# Altium footprint library IC.PcbLib: 83 footprints (part 4 of 6)
Each footprint in its own frame and in the unit in brackets; x right, y up, seen from the top. Pads: shape width x height; smd on the part's side, far side on the other; paste and mask are expansions set on the pad; w line width, h text height; cw(c..) or ccw(c..) is an arc to the next point about the centre after c.
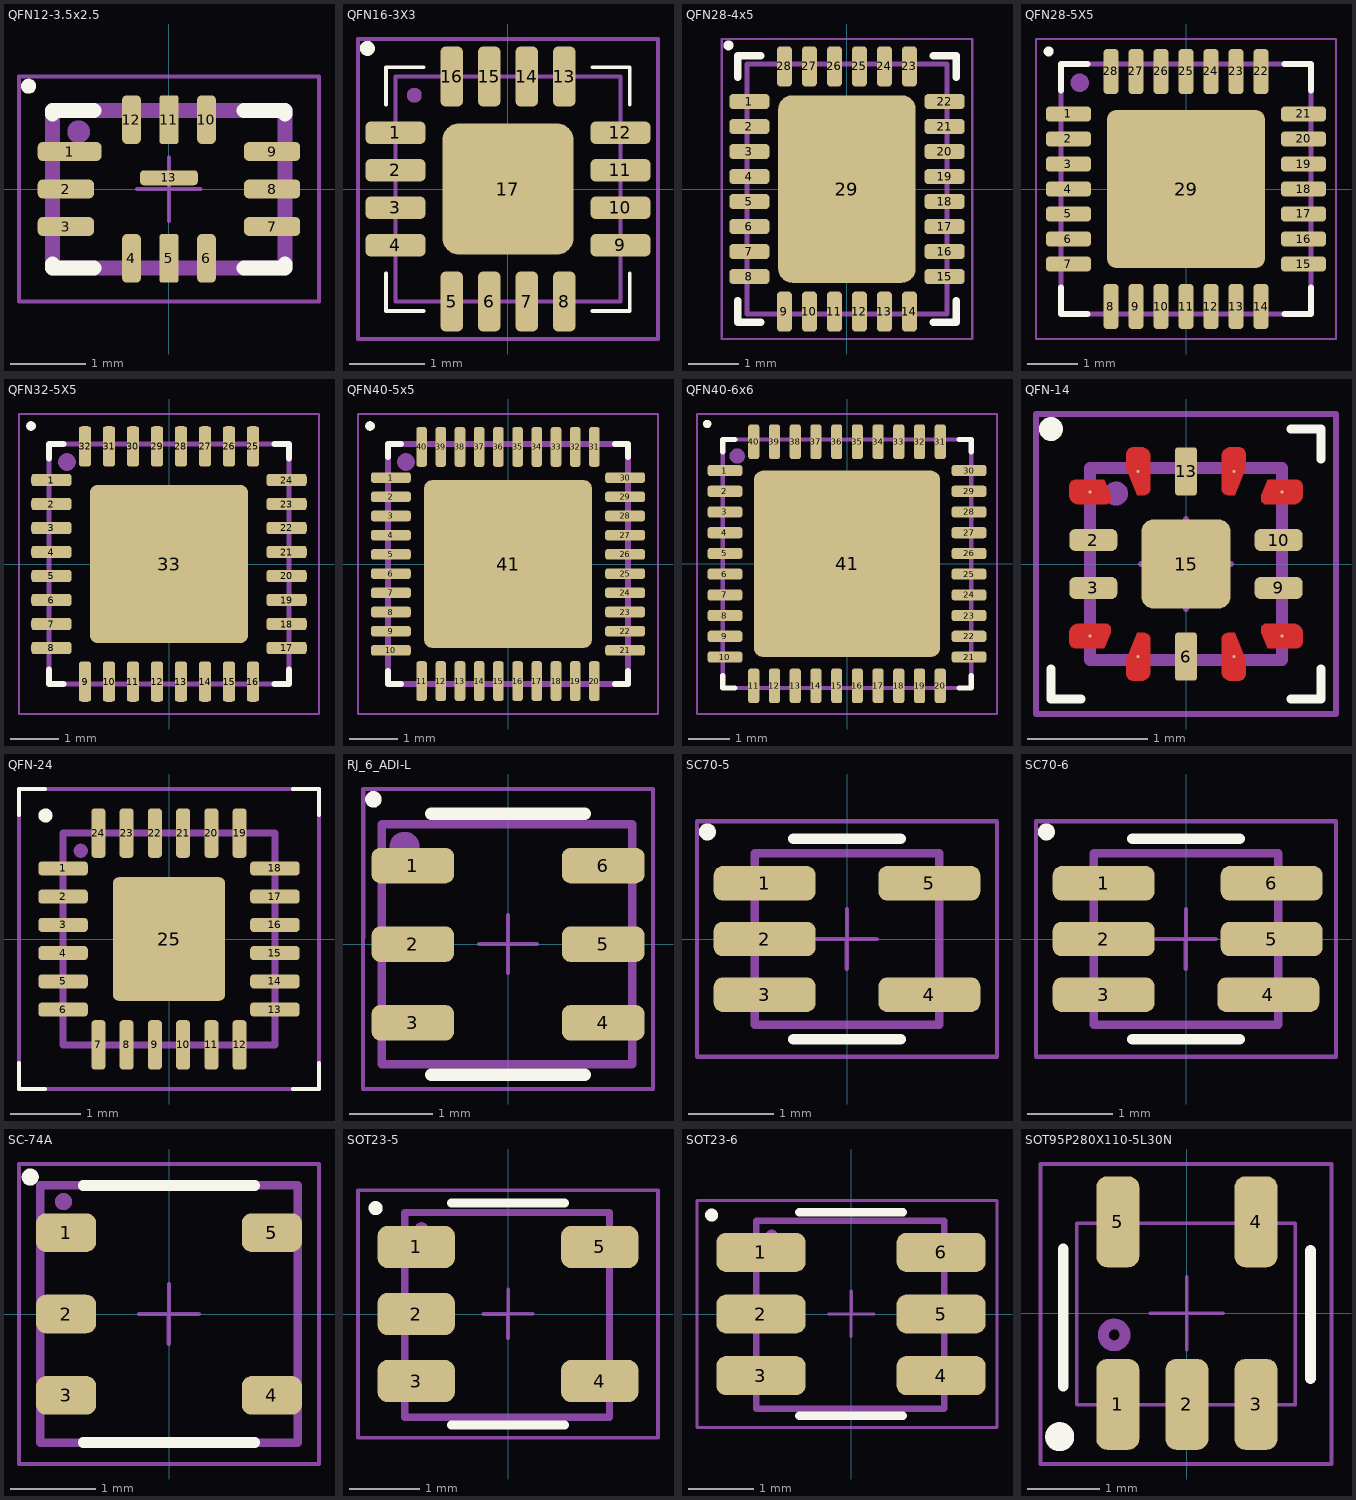
[diagram p3: the footprints below, top view; thin cyan lines are the x and y axes]

## QFN12-3.5x2.5 [mm]
pads (13):
  rrect50% 0.85x0.25 smd: 1(-1.325,0.5)
  rrect50% 0.75x0.25 smd: 2(-1.375,0) 3(-1.375,-0.5) 7(1.375,-0.5) 8(1.375,0) 9(1.375,0.5)
  rrect50% 0.25x0.65 smd: 4(-0.5,-0.925) 6(0.5,-0.925) 10(0.5,0.925) 12(-0.5,0.925)
  rrect25% 0.25x0.65 smd: 5(0,-0.925) 11(0,0.925)
  rrect50% 0.77x0.2 smd: 13(0,0.15)
Top Overlay:
  circle w0.1: c-1.872,1.37 r0.05
  lines w0.2: -1.55,-1 -1.55,-1.05 -1,-1.05 ; -1.55,1 -1.55,1.05 -1,1.05 ; 1,-1.05 1.55,-1.05 1.55,-1 ; 1,1.05 1.55,1.05 1.55,1
Top Assembly:
  circle w0.254: c-1.204,0.763 r0.025
  lines w0.1: -1.55,-1.05 1.575,-1.05 1.575,1.075 -1.55,1.075 -1.55,-1.05
  text ".Designator" at -1.126,-0.113 h0.5
Bottom Assembly:
  lines w0.2: -1.55,-1.05 1.55,-1.05 1.55,1.05 -1.55,1.05 -1.55,-1.05
Top Courtyard:
  lines w0.05: -0.425,0 0,0 ; 0,-0.425 0,0 ; 0,0.425 0,0 ; 0.425,0 0,0 ; -2,-1.5 2,-1.5 2,1.5 -2,1.5 -2,-1.5
3D body "IC_Analog_Devices_LTC5553IUDB#TRMPBF_eec.STEP": height 0.85, standoff 0, extent -1.5,-1 1.5,1

## QFN16-3X3 [mm]
pads (17):
  rrect50% 0.8x0.3 smd: 1(-1.5,0.75) 2(-1.5,0.25) 3(-1.5,-0.25) 4(-1.5,-0.75) 9(1.5,-0.75) 10(1.5,-0.25) 11(1.5,0.25) 12(1.5,0.75)
  rrect50% 0.3x0.8 smd: 5(-0.75,-1.5) 6(-0.25,-1.5) 7(0.25,-1.5) 8(0.75,-1.5) 13(0.75,1.5) 14(0.25,1.5) 15(-0.25,1.5) 16(-0.75,1.5)
  rrect25% 1.75x1.75 smd: 17(0,0)
Top Overlay:
  circle w0.1: c-1.875,1.875 r0.05
  lines w0.05: -1.625,-1.125 -1.625,-1.625 -1.125,-1.625 ; -1.625,1.125 -1.625,1.625 -1.125,1.625 ; 1.125,-1.625 1.625,-1.625 1.625,-1.125 ; 1.125,1.625 1.625,1.625 1.625,1.125
Top Assembly:
  circle w0.1: c-1.25,1.25 r0.05
  lines w0.05: -1.5,-1.5 1.5,-1.5 1.5,1.5 -1.5,1.5 -1.5,-1.5
  text ".Designator" at -2.252,-0.226 h1
Top Courtyard:
  lines w0.05: -0.5,0 0,0 ; 0,-0.5 0,0 ; 0,0.5 0,0 ; 0.5,0 0,0 ; -2,-2 2,-2 2,2 -2,2 -2,-2
3D body "SI53306-B-GM.stp": height 0.83, standoff -0.02, extent -1.5,-1.5 1.5,1.5

## QFN28-4x5 [mm]
pads (29):
  rrect50% 0.805x0.3 smd: 1(-1.952,1.75) 2(-1.952,1.25) 3(-1.952,0.75) 4(-1.952,0.25) 5(-1.952,-0.25) 6(-1.952,-0.75) 7(-1.952,-1.25) 8(-1.952,-1.75) 15(1.952,-1.75) 16(1.952,-1.25) 17(1.952,-0.75) 18(1.952,-0.25) 19(1.952,0.25) 20(1.952,0.75) 21(1.952,1.25) 22(1.952,1.75)
  rrect50% 0.3x0.805 smd: 9(-1.25,-2.452) 10(-0.75,-2.452) 11(-0.25,-2.452) 12(0.25,-2.452) 13(0.75,-2.452) 14(1.25,-2.452) 23(1.25,2.452) 24(0.75,2.452) 25(0.25,2.452) 26(-0.25,2.452) 27(-0.75,2.452) 28(-1.25,2.452)
  rrect20% 2.75x3.75 smd: 29(0,0)
Top Overlay:
  circle w0.1: c-2.37,2.872 r0.05
  lines w0.152: -2.184,-2.235 -2.184,-2.667 -1.727,-2.667 ; -2.184,2.235 -2.184,2.667 -1.727,2.667 ; 1.727,-2.667 2.184,-2.667 2.184,-2.235 ; 1.727,2.667 2.184,2.667 2.184,2.235
Top Assembly:
  circle w0.254: c-1.204,0.763 r0.025
  lines w0.1: -2,-2.5 2,-2.5 2,2.5 -2,2.5 -2,-2.5
  text ".Designator" at -1.126,-0.113 h0.5
Top Courtyard:
  lines w0.05: -0.4,0 0,0 ; 0,-0.4 0,0 ; 0,0.4 0,0 ; 0.4,0 0,0 ; -2.5,-3 2.5,-3 2.5,3 -2.5,3 -2.5,-3
3D body "LTC3789EUFD#PBF.STEP": height 0.8, standoff 0, extent -2,-2.5 2,2.5

## QFN28-5X5 [mm]
height 0.9
pads (29):
  rrect50% 0.9x0.3 smd: 1(-2.35,1.5) 2(-2.35,1) 3(-2.35,0.5) 4(-2.35,0) 5(-2.35,-0.5) 6(-2.35,-1) 7(-2.35,-1.5) 15(2.35,-1.5) 16(2.35,-1) 17(2.35,-0.5) 18(2.35,0) 19(2.35,0.5) 20(2.35,1) 21(2.35,1.5)
  rrect50% 0.3x0.9 smd: 8(-1.5,-2.35) 9(-1,-2.35) 10(-0.5,-2.35) 11(0,-2.35) 12(0.5,-2.35) 13(1,-2.35) 14(1.5,-2.35) 22(1.5,2.35) 23(1,2.35) 24(0.5,2.35) 25(0,2.35) 26(-0.5,2.35) 27(-1,2.35) 28(-1.5,2.35)
  rrect10% 3.15x3.15 smd: 29(0,0)
Top Overlay:
  circle w0.1: c-2.749,2.751 r0.05
  lines w0.127: -2.5,-1.97 -2.5,-2.5 -1.97,-2.5 ; -2.5,1.97 -2.5,2.5 -1.97,2.5 ; 1.97,-2.5 2.5,-2.5 2.5,-1.97 ; 1.97,2.5 2.5,2.5 2.5,1.97
Top Assembly:
  circle w0.254: c-2.125,2.125 r0.056
  lines w0.1: -2.5,-2.5 2.5,-2.5 2.5,2.5 -2.5,2.5 -2.5,-2.5
  text ".Designator" at -1.126,-0.113 h0.5
Top Courtyard:
  lines w0.05: -0.65,0 0,0 0,0.65 ; -0.005,-0.639 -0.005,0.011 ; -0.005,0.016 0.645,0.016 ; -3,-3 -3,3 3,3 3,-3 -3,-3
3D body: height 0.25, standoff 0, extent -2.54,-2.54 2.54,2.54

## QFN32-5X5 [mm]
pads (33):
  rrect50% 0.84x0.26 smd: 1(-2.45,1.75) 2(-2.45,1.25) 3(-2.45,0.75) 4(-2.45,0.25) 5(-2.45,-0.25) 6(-2.45,-0.75) 7(-2.45,-1.25) 8(-2.45,-1.75) 17(2.45,-1.75) 18(2.45,-1.25) 19(2.45,-0.75) 20(2.45,-0.25) 21(2.45,0.25) 22(2.45,0.75) 23(2.45,1.25) 24(2.45,1.75)
  rrect50% 0.26x0.84 smd: 9(-1.75,-2.45) 10(-1.25,-2.45) 11(-0.75,-2.45) 12(-0.25,-2.45) 13(0.25,-2.45) 14(0.75,-2.45) 15(1.25,-2.45) 16(1.75,-2.45) 25(1.75,2.45) 26(1.25,2.45) 27(0.75,2.45) 28(0.25,2.45) 29(-0.25,2.45) 30(-0.75,2.45) 31(-1.25,2.45) 32(-1.75,2.45)
  rrect10% 3.3x3.3 smd: 33(0,0)
Top Overlay:
  circle w0.1: c-2.875,2.875 r0.05
  lines w0.127: -2.5,-2.2 -2.5,-2.5 -2.2,-2.5 ; -2.5,2.2 -2.5,2.5 -2.2,2.5 ; 2.2,-2.5 2.5,-2.5 2.5,-2.2 ; 2.2,2.5 2.5,2.5 2.5,2.2
Top Assembly:
  circle w0.254: c-2.125,2.125 r0.056
  lines w0.1: -2.5,-2.5 2.5,-2.5 2.5,2.5 -2.5,2.5 -2.5,-2.5
  text ".Designator" at -1.126,-0.113 h0.5
Top Courtyard:
  lines w0.05: -0.55,0 0,0 ; 0,-0.55 0,0 ; 0,0.55 0,0 ; 0.55,0 0,0 ; -3.125,-3.125 -3.125,3.125 3.125,3.125 3.125,-3.125 -3.125,-3.125
3D body "FT232RQ--3DModel-STEP-56544.STEP": height 0.9, standoff 0, extent -2.5,-2.5 2.5,2.5

## QFN40-5x5 [mm]
pads (41):
  rrect50% 0.83x0.22 smd: 1(-2.44,1.8) 2(-2.44,1.4) 3(-2.44,1) 4(-2.44,0.6) 5(-2.44,0.2) 6(-2.44,-0.2) 7(-2.44,-0.6) 8(-2.44,-1) 9(-2.44,-1.4) 10(-2.44,-1.8) 21(2.44,-1.8) 22(2.44,-1.4) 23(2.44,-1) 24(2.44,-0.6) 25(2.44,-0.2) 26(2.44,0.2) 27(2.44,0.6) 28(2.44,1) 29(2.44,1.4) 30(2.44,1.8)
  rrect50% 0.22x0.83 smd: 11(-1.8,-2.44) 12(-1.4,-2.44) 13(-1,-2.44) 14(-0.6,-2.44) 15(-0.2,-2.44) 16(0.2,-2.44) 17(0.6,-2.44) 18(1,-2.44) 19(1.4,-2.44) 20(1.8,-2.44) 31(1.8,2.44) 32(1.4,2.44) 33(1,2.44) 34(0.6,2.44) 35(0.2,2.44) 36(-0.2,2.44) 37(-0.6,2.44) 38(-1,2.44) 39(-1.4,2.44) 40(-1.8,2.44)
  rrect10% 3.5x3.5 smd: 41(0,0)
Top Overlay:
  circle w0.1: c-2.875,2.875 r0.05
  lines w0.127: -2.5,-2.23 -2.5,-2.5 -2.23,-2.5 ; -2.5,2.23 -2.5,2.5 -2.23,2.5 ; 2.23,-2.5 2.5,-2.5 2.5,-2.23 ; 2.23,2.5 2.5,2.5 2.5,2.23
Top Assembly:
  circle w0.254: c-2.125,2.125 r0.056
  lines w0.1: -2.5,-2.5 2.5,-2.5 2.5,2.5 -2.5,2.5 -2.5,-2.5
  text ".Designator" at -1.126,-0.113 h0.5
Top 3D Body:
  lines w0.127: -2.5,-2.5 2.5,-2.5 2.5,2.5 -2.5,2.5 -2.5,-2.5
Top Courtyard:
  lines w0.05: -0.3,0 0,0 ; 0,-0.3 0,0 ; 0,0.3 0,0 ; 0.3,0 0,0 ; -3.125,-3.125 3.125,-3.125 3.125,3.125 -3.125,3.125 -3.125,-3.125
3D body "step_temp.STEP": height 0.8, standoff 0, extent -2.5,-2.5 2.5,2.5

## QFN40-6x6 [mm]
pads (41):
  rrect50% 0.84x0.27 smd: 1(-2.945,2.25) 2(-2.945,1.75) 3(-2.945,1.25) 4(-2.945,0.75) 5(-2.945,0.25) 6(-2.945,-0.25) 7(-2.945,-0.75) 8(-2.945,-1.25) 9(-2.945,-1.75) 10(-2.945,-2.25) 21(2.945,-2.25) 22(2.945,-1.75) 23(2.945,-1.25) 24(2.945,-0.75) 25(2.945,-0.25) 26(2.945,0.25) 27(2.945,0.75) 28(2.945,1.25) 29(2.945,1.75) 30(2.945,2.25)
  rrect50% 0.27x0.84 smd: 11(-2.25,-2.945) 12(-1.75,-2.945) 13(-1.25,-2.945) 14(-0.75,-2.945) 15(-0.25,-2.945) 16(0.25,-2.945) 17(0.75,-2.945) 18(1.25,-2.945) 19(1.75,-2.945) 20(2.25,-2.945) 31(2.25,2.945) 32(1.75,2.945) 33(1.25,2.945) 34(0.75,2.945) 35(0.25,2.945) 36(-0.25,2.945) 37(-0.75,2.945) 38(-1.25,2.945) 39(-1.75,2.945) 40(-2.25,2.945)
  rrect10% 4.5x4.5 smd: 41(0,0)
Top Overlay:
  circle w0.1: c-3.375,3.375 r0.05
  lines w0.127: -3,-2.705 -3,-3 -2.705,-3 ; -3,2.705 -3,3 -2.705,3 ; 2.705,-3 3,-3 3,-2.705 ; 2.705,3 3,3 3,2.705
Top Assembly:
  circle w0.254: c-2.65,2.6 r0.056
  lines w0.1: -3,-3 3,-3 3,3 -3,3 -3,-3
  text ".Designator" at -1.126,-0.113 h0.5
Top Courtyard:
  lines w0.05: -0.427,0.003 0,0 ; -0.003,-0.427 0,0 ; -0.001,-0.001 0.426,-0.004 ; 0,0 0.003,0.427 0,0 ; -3.615,-3.625 -3.615,3.615 3.615,3.615 3.615,-3.625 -3.615,-3.625
3D body "NCN5120MNTWG--3DModel-STEP-269445.STEP": height 1, standoff 0, extent -3,-3 3,3

## QFN-14 [mm]
height 0.55
pads (15):
  round 0.025 smd: 1(-0.8,0.6) 4(-0.8,-0.6) 5(-0.4,-0.772) 7(0.4,-0.772) 8(0.8,-0.6) 11(0.8,0.6) 12(0.4,0.772) 14(-0.4,0.772)
  rrect50% 0.4x0.18 smd: 2(-0.772,0.2) 3(-0.772,-0.2) 9(0.772,-0.2) 10(0.772,0.2)
  rrect25% 0.18x0.4 smd: 6(0,-0.772) 13(0,0.772)
  rrect25% 0.74x0.74 smd: 15(0,0)
Top Layer:
  region: -0.663,-0.5 -0.656,-0.5 -0.643,-0.506 -0.633,-0.516 -0.627,-0.529 -0.627,-0.536 -0.627,-0.573 -0.681,-0.7 -0.922,-0.7 -0.932,-0.7 -0.95,-0.692 -0.964,-0.678 -0.972,-0.66 -0.972,-0.65 -0.972,-0.575 -0.972,-0.56 -0.961,-0.533 -0.939,-0.511 -0.912,-0.5 -0.897,-0.5
  region: -0.3,-0.903 -0.3,-0.917 -0.311,-0.942 -0.33,-0.961 -0.355,-0.972 -0.369,-0.972 -0.438,-0.972 -0.451,-0.972 -0.473,-0.963 -0.491,-0.945 -0.5,-0.923 -0.5,-0.91 -0.5,-0.797 -0.406,-0.572 -0.353,-0.572 -0.343,-0.572 -0.323,-0.58 -0.308,-0.595 -0.3,-0.615 -0.3,-0.625
  region: 0.3,0.903 0.3,0.917 0.311,0.942 0.33,0.961 0.355,0.972 0.369,0.972 0.438,0.972 0.451,0.972 0.473,0.963 0.491,0.945 0.5,0.923 0.5,0.91 0.5,0.797 0.406,0.572 0.353,0.572 0.343,0.572 0.323,0.58 0.308,0.595 0.3,0.615 0.3,0.625
  region: -0.3,0.903 -0.3,0.917 -0.311,0.942 -0.33,0.961 -0.355,0.972 -0.369,0.972 -0.438,0.972 -0.451,0.972 -0.473,0.963 -0.491,0.945 -0.5,0.923 -0.5,0.91 -0.5,0.797 -0.406,0.572 -0.353,0.572 -0.343,0.572 -0.323,0.58 -0.308,0.595 -0.3,0.615 -0.3,0.625
  region: 0.3,-0.903 0.3,-0.917 0.311,-0.942 0.33,-0.961 0.355,-0.972 0.369,-0.972 0.438,-0.972 0.451,-0.972 0.473,-0.963 0.491,-0.945 0.5,-0.923 0.5,-0.91 0.5,-0.797 0.406,-0.572 0.353,-0.572 0.343,-0.572 0.323,-0.58 0.308,-0.595 0.3,-0.615 0.3,-0.625
  region: 0.663,-0.5 0.656,-0.5 0.643,-0.506 0.633,-0.516 0.627,-0.529 0.627,-0.536 0.627,-0.573 0.681,-0.7 0.922,-0.7 0.932,-0.7 0.95,-0.692 0.964,-0.678 0.972,-0.66 0.972,-0.65 0.972,-0.575 0.972,-0.56 0.961,-0.533 0.939,-0.511 0.912,-0.5 0.897,-0.5
  region: 0.663,0.5 0.656,0.5 0.643,0.506 0.633,0.516 0.627,0.529 0.627,0.536 0.627,0.573 0.681,0.7 0.922,0.7 0.932,0.7 0.95,0.692 0.964,0.678 0.972,0.66 0.972,0.65 0.972,0.575 0.972,0.56 0.961,0.533 0.939,0.511 0.912,0.5 0.897,0.5
  region: -0.663,0.5 -0.656,0.5 -0.643,0.506 -0.633,0.516 -0.627,0.529 -0.627,0.536 -0.627,0.573 -0.681,0.7 -0.922,0.7 -0.932,0.7 -0.95,0.692 -0.964,0.678 -0.972,0.66 -0.972,0.65 -0.972,0.575 -0.972,0.56 -0.961,0.533 -0.939,0.511 -0.912,0.5 -0.897,0.5
Top Overlay:
  circle w0.1: c-1.125,1.125 r0.05
  lines w0.075: -1.125,-0.875 -1.125,-1.125 -0.875,-1.125 ; 0.875,-1.125 1.125,-1.125 1.125,-0.875 ; 0.875,1.125 1.125,1.125 1.125,0.875
Top Assembly:
  circle w0.1: c-0.583,0.587 r0.05
  lines w0.1: -0.8,-0.8 0.8,-0.8 0.8,0.8 -0.8,0.8 -0.8,-0.8
  text ".Designator" at -1.126,-0.113 h0.5
Top Courtyard:
  lines w0.05: -0.375,0 0,0 ; 0,-0.375 0,0 ; 0,0.375 0,0 ; 0.375,0 0,0 ; -1.25,-1.25 -1.25,1.25 1.25,1.25 1.25,-1.25 -1.25,-1.25
3D body "SKY13575-639LF.stp": height 0.43, standoff 0, extent -0.8,-0.8 0.8,0.8

## QFN-24 [mm]
pads (25):
  rrect50% 0.7x0.2 smd: 1(-1.5,1) 2(-1.5,0.6) 3(-1.5,0.2) 4(-1.5,-0.2) 5(-1.5,-0.6) 6(-1.5,-1) 13(1.5,-1) 14(1.5,-0.6) 15(1.5,-0.2) 16(1.5,0.2) 17(1.5,0.6) 18(1.5,1)
  rrect50% 0.2x0.7 smd: 7(-1,-1.5) 8(-0.6,-1.5) 9(-0.2,-1.5) 10(0.2,-1.5) 11(0.6,-1.5) 12(1,-1.5) 19(1,1.5) 20(0.6,1.5) 21(0.2,1.5) 22(-0.2,1.5) 23(-0.6,1.5) 24(-1,1.5)
  rrect10% 1.59x1.75 smd: 25(0,0)
Top Overlay:
  circle w0.1: c-1.75,1.75 r0.05
  lines w0.05: -2.125,-1.75 -2.125,-2.125 -1.75,-2.125 ; -2.125,1.75 -2.125,2.125 -1.75,2.125 ; 1.75,-2.125 2.125,-2.125 2.125,-1.75 ; 1.75,2.125 2.125,2.125 2.125,1.75
Top Assembly:
  circle w0.1: c-1.25,1.25 r0.05
  lines w0.1: -1.5,-1.5 -1.5,1.5 1.5,1.5 1.5,-1.5 -1.5,-1.5
  text ".Designator" at -1.578,-0.158 h0.7
Top Courtyard:
  lines w0.05: -0.3,0 0,0 ; 0,-0.3 0,0 ; 0,0.3 0,0 ; 0.3,0 0,0 ; -2.125,-2.125 2.125,-2.125 2.125,2.125 -2.125,2.125 -2.125,-2.125
3D body "ICM-20948.stp": height 1, standoff 0, extent -1.504,-1.553 1.506,1.46

## RJ_6_ADI-L [mm]
pads (6):
  rrect50% 1x0.43 smd: 1(-1.15,0.95) 2(-1.15,0) 3(-1.15,-0.95) 4(1.15,-0.95) 5(1.15,0) 6(1.15,0.95)
Top Overlay:
  circle w0.1: c-1.627,1.75 r0.05
  lines w0.152: -0.927,-1.577 0.927,-1.577 ; -0.927,1.577 0.927,1.577
Top Assembly:
  circle w0.254: c-1.25,1.175 r0.056
  lines w0.1: -1.525,-1.45 1.5,-1.45 1.5,1.45 -1.525,1.45 -1.525,-1.45
  text ".Designator" at -1.126,-0.113 h0.5
Top Courtyard:
  lines w0.05: -0.349,0 0.001,0 0.001,0.35 ; 0,-0.345 0,0.005 ; 0,0 0.35,0 ; -1.751,-1.75 1.75,-1.75 1.75,1.875 -1.749,1.875 -1.751,-1.75
3D body "RJ_6_ADI.step": height 1.45, standoff 0, extent -1.5,-1.45 1.5,1.45

## SC70-5 [mm]
pads (5):
  rrect50% 1.19x0.4 smd: 1(-0.96,0.65) 2(-0.96,0) 3(-0.96,-0.65) 4(0.96,-0.65) 5(0.96,0.65)
Top Overlay:
  circle w0.1: c-1.629,1.249 r0.05
  lines w0.127: -0.625,-1.17 0.625,-1.17 ; -0.625,1.17 0.625,1.17
Top Assembly:
  circle w0.1: c-0.8,0.75 r0.05
  lines w0.1: -1.075,-1 1.075,-1 1.075,1 -1.075,1 -1.075,-1
  text ".Designator" at -1.126,-0.113 h0.5
Top Courtyard:
  lines w0.05: -0.35,0 0,0 0,0.35 ; -0.001,-0.345 -0.001,0.005 ; -0.001,0 0.349,0 ; -1.75,-1.375 1.75,-1.375 1.75,1.375 -1.75,1.375 -1.75,-1.375
3D body "step_temp.STEP": height 1.1, standoff 0, extent -1.05,-1 1.05,1

## SC70-6 [mm]
pads (6):
  rrect50% 1.19x0.4 smd: 1(-0.96,0.65) 2(-0.96,0) 3(-0.96,-0.65) 4(0.96,-0.65) 5(1,0) 6(1,0.65)
Top Overlay:
  circle w0.1: c-1.629,1.249 r0.05
  lines w0.127: -0.625,-1.17 0.625,-1.17 ; -0.625,1.17 0.625,1.17
Top Assembly:
  circle w0.1: c-0.8,0.75 r0.05
  lines w0.1: -1.075,-1 1.075,-1 1.075,1 -1.075,1 -1.075,-1
  text ".Designator" at -1.126,-0.113 h0.5
Top Courtyard:
  lines w0.05: -0.35,0 0,0 0,0.35 ; -0.001,-0.345 -0.001,0.005 ; -0.001,0 0.349,0 ; -1.75,-1.375 -1.75,1.375 1.75,1.375 1.75,-1.375 -1.75,-1.375
3D body "TMUX4157NDCKR.stp": height 1, standoff 0, extent -1.05,-1 1.05,1

## SC-74A [mm]
pads (5):
  rrect50% 0.7x0.45 smd: 1(-1.2,0.95) 2(-1.2,0) 3(-1.2,-0.95) 4(1.2,-0.95) 5(1.2,0.95)
Top Overlay:
  circle w0.1: c-1.619,1.598 r0.05
  lines w0.127: -1,-1.5 1,-1.5 ; -1,1.5 1,1.5
Top Assembly:
  circle w0.1: c-1.231,1.312 r0.05
  lines w0.1: -1.5,-1.5 1.5,-1.5 1.5,1.5 -1.5,1.5 -1.5,-1.5
  text ".Designator" at -1.126,-0.113 h0.5
Top Courtyard:
  lines w0.05: -0.35,0 0,0 0,0.35 ; -0.001,-0.345 -0.001,0.005 ; -0.001,0 0.349,0 ; -1.75,-1.75 -1.75,1.75 1.75,1.75 1.75,-1.75 -1.75,-1.75
3D body "SOT753.step": height 1.02, standoff 0.02, extent -1.408,-1.47 1.38,1.48

## SOT23-5 [mm]
height 1.3
pads (5):
  rrect50% 1.1x0.6 smd: 1(-1.3,0.95) 2(-1.3,0) 3(-1.3,-0.95) 4(1.3,-0.95) 5(1.3,0.95)
Top Overlay:
  circle w0.1: c-1.875,1.5 r0.05
  lines w0.127: -0.8,-1.57 0.8,-1.57 ; -0.8,1.57 0.8,1.57
Top Assembly:
  circle w0.1: c-1.225,1.2 r0.05
  lines w0.1: -1.463,-1.463 1.437,-1.463 1.437,1.437 -1.463,1.437 -1.463,-1.463
  text ".Designator" at -1.126,-0.113 h0.5
Top Courtyard:
  lines w0.05: -0.349,0 0.001,0 0.001,0.35 ; 0,-0.345 0,0.005 ; 0,0 0.35,0 ; -2.125,-1.75 2.125,-1.75 2.125,1.75 -2.125,1.75 -2.125,-1.75
3D body "SN65LVDS1DBVR.STEP": height 1.45, standoff 0, extent -1.4,-1.45 1.4,1.45

## SOT23-6 [mm]
height 1.3
pads (6):
  rrect50% 1.375x0.6 smd: 1(-1.389,0.95) 2(-1.389,0) 3(-1.389,-0.95) 4(1.389,-0.95) 5(1.389,0) 6(1.389,0.95)
Top Overlay:
  circle w0.1: c-2.15,1.525 r0.05
  lines w0.127: -0.8,-1.57 0.8,-1.57 ; -0.8,1.57 0.8,1.57
Top Assembly:
  circle w0.1: c-1.225,1.2 r0.05
  lines w0.1: -1.463,-1.463 1.437,-1.463 1.437,1.437 -1.463,1.437 -1.463,-1.463
  text ".Designator" at -1.126,-0.113 h0.5
Top Courtyard:
  lines w0.05: -0.349,0 0.001,0 0.001,0.35 ; 0,-0.345 0,0.005 ; 0,0 0.35,0 ; -2.375,-1.75 -2.375,1.75 2.25,1.75 2.25,-1.75 -2.375,-1.75
3D body "step_temp.STEP": height 1.3, standoff 0, extent -1.4,-1.45 1.4,1.45

## SOT95P280X110-5L30N [mm]
pads (5):
  rrect50% 0.59x1.25 smd: 1(-0.95,-1.255) 2(0,-1.255) 3(0.95,-1.255) 4(0.95,1.255) 5(-0.95,1.255)
Top Overlay:
  circle w0.2: c-1.75,-1.7 r0.1
  lines w0.15: -1.7,-1 -1.7,0.88 ; 1.7,-0.9 1.7,0.86
Top Assembly:
  circle w0.15: c-1,-0.3 r0.15
  lines w0.05: -1.513,-1.263 1.487,-1.263 1.487,1.237 -1.513,1.237 -1.513,-1.263
  text ".Designator" at -1.801,-0.181 h0.8
Top Courtyard:
  lines w0.05: -0.5,0 0,0 ; 0,-0.5 0,0 ; 0,0.5 0,0 ; 0.5,0 0,0 ; -2.013,-2.075 1.987,-2.075 1.987,2.05 -2.013,2.05 -2.013,-2.075
3D body "CircuitWorks-SOT-23-5.step": height 1.05, standoff -0.05, extent -1.5,-1.25 1.5,1.25